# EAGLE library part CD74HC4053E (library CD74HC4053E)
HIGH-SPEED CMOS LOGIC ANALOG MULTIPLEXERS/DEMULTIPLEXERS
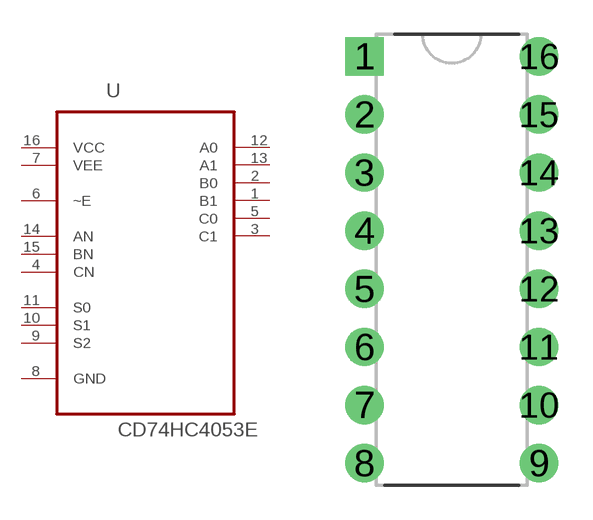
[diagram p0: symbol with the pads of DIP254P762X508-16; footprint DIP254P762X508-16]

Designator prefix U

## CD74HC4053E (DESCRIPTION: 5-V, 2:1 (SPDT) 3-channel analog switch; DIGI-KEY_PART_NUMBER: 296-9219-5-ND; MF: Texas; MP: CD74HC4053E; PACKAGE: PDIP-16 Texas Instruments; PURCHASE-URL: https://pricing.snapeda.com/search/part/CD74HC4053E/?ref=eda)  [DIP254P762X508-16]
1  B1
2  B0
3  C1
4  CN  pas
5  C0
6  ~E  in
7  VEE  pwr
8  GND  pas
9  S2  in
10  S1  in
11  S0  in
12  A0
13  A1
14  AN
15  BN
16  VCC  pwr

## Footprint DIP254P762X508-16 (pad centres in mm)
drill 1.118 square: 1 -7.62,17.78
drill 1.118: 2 -7.62,15.24; 3 -7.62,12.7; 4 -7.62,10.16; 5 -7.62,7.62; 6 -7.62,5.08; 7 -7.62,2.54; 8 -7.62,0; 9 0,0; 10 0,2.54; 11 0,5.08; 12 0,7.62; 13 0,10.16; 14 0,12.7; 15 0,15.24; 16 0,17.78